# Altium schematic symbol library sch_ConnectorGeneral.SchLib: 83 symbols
Pins are listed as number, name and electrical type; pins without a type are passive.

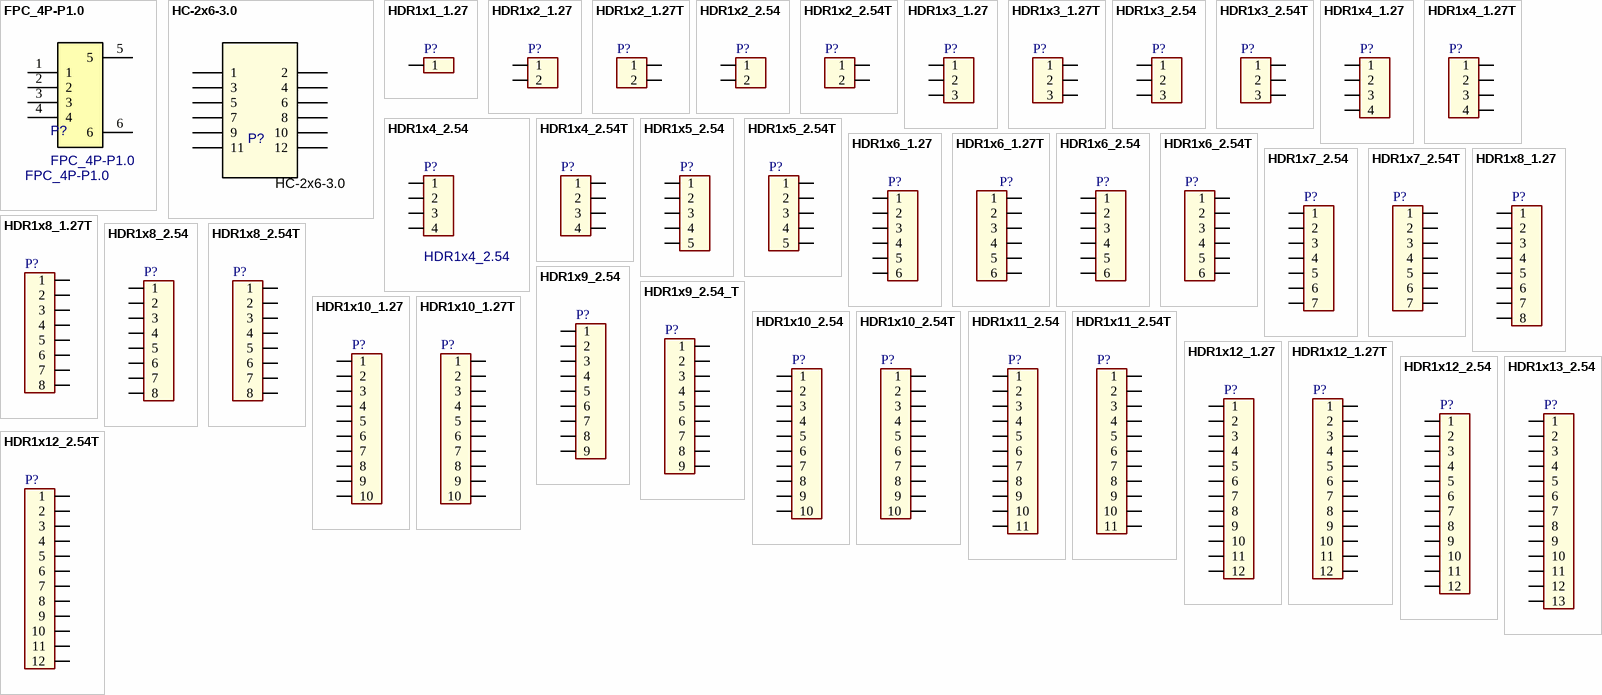
[diagram p0: symbols FPC_4P-P1.0 to HDR1x13_2.54]

## FPC_4P-P1.0
designator P?
MFR: *; Package: *; PartNumber: FPC_4P-P1.0
footprint FPC-SMD_4P-P1.00_HDGC_1.0K-GL-4PB
pins: 1, 2, 3, 4, 5, 6

## HC-2x6-3.0
designator P?
Header; MFR: Mfr?; Package: HC-2x6-3.0; PartNumber: HC-2x6-3.0
footprint MX-TH_2X6P-P3.0_MX3.0-2X6AW
pins: 1, 2, 3, 4, 5, 6, 7, 8, 9, 10, 11, 12

## HDR1x1_1.27
designator P?, comment HDR1x1  (value not drawn)
Header; PartNumber: HDR1x1_1.27; Package: HDR1x1_1.27
footprint HDR-TH-1P-P1.27-V
pins: 1

## HDR1x2_1.27
designator P?, comment HDR1x2  (value not drawn)
Header; PartNumber: HDR1x2_1.27; Package: HDR1x2_1.27
footprint HDR-TH-1X2P-P2.54-H
footprint HDR-TH-1X2P-P1.27-V
pins: 1, 2

## HDR1x2_1.27T
designator P?, comment HDR1x2  (value not drawn)
Header; PartNumber: HDR1x2_1.27T; Package: HDR1x2_1.27T
footprint HDR1X2_1.27_180
footprint HDR1X2_1.27_180H
pins: 1, 2

## HDR1x2_2.54
designator P?, comment HDR1x2  (value not drawn)
Header; PartNumber: HDR1x2_2.54; Package: HDR1x2_2.54
footprint HDR1X2_2.54_90
footprint HDR1X2_2.54_90F
footprint HDR1X2_2.54_180
footprint HDR1X2_2.54_180F
footprint HDR1X2_2.54_180H
footprint HDR1X2_2.54_180HD
pins: 1, 2

## HDR1x2_2.54T
designator P?, comment HDR1x2  (value not drawn)
Header; PartNumber: HDR1x2_2.54T; Package: HDR1x2_2.54T
footprint HDR1X2_2.54_90
footprint HDR1X2_2.54_90F
footprint HDR1X2_2.54_180
footprint HDR1X2_2.54_180F
footprint HDR1X2_2.54_180H
footprint HDR1X2_2.54_180HD
pins: 1, 2

## HDR1x3_1.27
designator P?, comment HDR1x3  (value not drawn)
Header; PartNumber: HDR1x3_1.27; Package: HDR1x3_1.27
footprint HDR1X3_1.27_180HF
pins: 1, 2, 3

## HDR1x3_1.27T
designator P?, comment HDR1x3  (value not drawn)
Header; PartNumber: HDR1x3_1.27T; Package: HDR1x3_1.27T
footprint HDR1X3_1.27_180 (Footprint not found)
footprint HDR1X3_1.27_180HF
pins: 1, 2, 3

## HDR1x3_2.54
designator P?, comment HDR1x3  (value not drawn)
Header; PartNumber: HDR1x3_2.54; Package: HDR1x3_2.54
footprint HDR1X3_2.54_90
footprint HDR1X3_2.54_90F
footprint HDR1X3_2.54_180
footprint HDR1X3_2.54_180F
pins: 1, 2, 3

## HDR1x3_2.54T
designator P?, comment HDR1x3  (value not drawn)
Header; PartNumber: HDR1x3_2.54T; Package: HDR1x3_2.54T
footprint HDR1X3_2.54_90
footprint HDR1X3_2.54_90F
footprint HDR1X3_2.54_180
footprint HDR1X3_2.54_180F
pins: 1, 2, 3

## HDR1x4_1.27
designator P?, comment HDR1x4  (value not drawn)
Header; PartNumber: HDR1x4_1.27; Package: HDR1x4_1.27
footprint HDR1X4_1.27_180
footprint HDR1X4_1.27_180F
footprint HDR1X4_1.27_180H
footprint HDR1X4_1.27_180HF
pins: 1, 2, 3, 4

## HDR1x4_1.27T
designator P?, comment HDR1x4  (value not drawn)
Header; PartNumber: HDR1x4_1.27T; Package: HDR1x4_1.27T
footprint HDR1X4_1.27_180
footprint HDR1X4_1.27_180F
footprint HDR1X4_1.27_180H
footprint HDR1X4_1.27_180HF
pins: 1, 2, 3, 4

## HDR1x4_2.54
designator P?, comment PartNumber: HDR1x4_2.54  (hidden comment: HDR1x4)
Header; Package: HDR1x4_2.54
footprint HDR1X4_2.54_90
footprint HDR1X4_2.54_90F
footprint HDR1x4_2.54_180
footprint HDR1X4_2.54_180F (Footprint not found)
footprint HDR1X4_2.54_180H
pins: 1, 2, 3, 4

## HDR1x4_2.54T
designator P?, comment HDR1x4  (value not drawn)
Header; PartNumber: HDR1x4_2.54T; Package: HDR1x4_2.54T
footprint HDR1X4_2.54_90
footprint HDR1X4_2.54_90F
footprint HDR1x4_2.54_180
footprint HDR1X4_2.54_180F (Footprint not found)
footprint HDR1X4_2.54_180H
pins: 1, 2, 3, 4

## HDR1x5_2.54
designator P?, comment HDR1x5  (value not drawn)
Header; PartNumber: HDR1x5_2.54; Package: HDR1x5_2.54
footprint HDR1X5_2.54_180
footprint HDR1X5_2.54_180F (Footprint not found)
footprint HDR1X5_2.54_180H
footprint HDR1X5_2.54_180HF
pins: 1, 2, 3, 4, 5

## HDR1x5_2.54T
designator P?, comment HDR1x5  (value not drawn)
Header; PartNumber: HDR1x5_2.54T; Package: HDR1x5_2.54T
footprint HDR1X5_2.54_90 (Footprint not found)
footprint HDR1X5_2.54_90F (Footprint not found)
footprint HDR1X5_2.54_180
footprint HDR1X5_2.54_180F (Footprint not found)
footprint HDR1X5_2.54_180H
footprint HDR1X5_2.54_180HF
pins: 1, 2, 3, 4, 5

## HDR1x6_1.27
designator P?, comment HDR1x6  (value not drawn)
Header; PartNumber: HDR1x6_1.27; Package: HDR1x6_1.27
footprint HDR1X6_1.27_90 (Footprint not found)
footprint HDR1X6_1.27_90F (Footprint not found)
footprint HDR1X6_1.27_180 (Footprint not found)
footprint HDR1X6_1.27_180F
footprint HDR1X6_1.27_180H
footprint HDR1X6_1.27_180HF
pins: 1, 2, 3, 4, 5, 6

## HDR1x6_1.27T
designator P?, comment HDR1x6  (value not drawn)
Header; PartNumber: HDR1x6_1.27T; Package: HDR1x6_1.27T
footprint HDR1X6_1.27_90 (Footprint not found)
footprint HDR1X6_1.27_90F (Footprint not found)
footprint HDR1X6_1.27_180 (Footprint not found)
footprint HDR1X6_1.27_180F
footprint HDR1X6_1.27_180H
footprint HDR1X6_1.27_180HF
pins: 1, 2, 3, 4, 5, 6

## HDR1x6_2.54
designator P?, comment HDR1x6  (value not drawn)
Header; PartNumber: HDR1x6_2.54; Package: HDR1x6_2.54
footprint HDR1X6_2.54_90
footprint HDR1X6_2.54_90F
footprint HDR1X6_2.54_180
footprint HDR1X6_2.54_180F
pins: 1, 2, 3, 4, 5, 6

## HDR1x6_2.54T
designator P?, comment HDR1x6  (value not drawn)
Header; PartNumber: HDR1x6_2.54T; Package: HDR1x6_2.54T
footprint HDR1X6_2.54_90
footprint HDR1X6_2.54_90F
footprint HDR1X6_2.54_180
footprint HDR1X6_2.54_180F
pins: 1, 2, 3, 4, 5, 6

## HDR1x7_2.54
designator P?, comment HDR1x7  (value not drawn)
Header; PartNumber: HDR1x7_2.54; Package: HDR1x7_2.54
footprint HDR1X7_2.54_90 (Footprint not found)
footprint HDR1X7_2.54_90F (Footprint not found)
footprint HDR1X7_2.54_180
footprint HDR1X7_2.54_180F (Footprint not found)
footprint HDR1X7_2.54_180H
pins: 1, 2, 3, 4, 5, 6, 7

## HDR1x7_2.54T
designator P?, comment HDR1x7  (value not drawn)
Header; PartNumber: HDR1x7_2.54T; Package: HDR1x7_2.54T
footprint HDR1X7_2.54_90 (Footprint not found)
footprint HDR1X7_2.54_90F (Footprint not found)
footprint HDR1X7_2.54_180
footprint HDR1X7_2.54_180F (Footprint not found)
footprint HDR1X7_2.54_180H
pins: 1, 2, 3, 4, 5, 6, 7

## HDR1x8_1.27
designator P?, comment HDR1x8  (value not drawn)
Header; PartNumber: HDR1x8_1.27; Package: HDR1x8_1.27
footprint HDR1X8_1.27_90 (Footprint not found)
footprint HDR1X8_1.27_90F (Footprint not found)
footprint HDR1X8_1.27_180
footprint HDR1X8_1.27_180F
footprint HDR1X8_1.27_180H (Footprint not found)
footprint HDR1X8_1.27_180HF
pins: 1, 2, 3, 4, 5, 6, 7, 8

## HDR1x8_1.27T
designator P?, comment HDR1x8  (value not drawn)
Header; PartNumber: HDR1x8_1.27T; Package: HDR1x8_1.27T
footprint HDR1X8_1.27_90 (Footprint not found)
footprint HDR1X8_1.27_90F (Footprint not found)
footprint HDR1X8_1.27_180
footprint HDR1X8_1.27_180F
footprint HDR1X8_1.27_180H (Footprint not found)
footprint HDR1X8_1.27_180HF
pins: 1, 2, 3, 4, 5, 6, 7, 8

## HDR1x8_2.54
designator P?, comment HDR1x8  (value not drawn)
Header; PartNumber: HDR1x8_2.54; Package: HDR1x8_2.54
footprint HDR1X8_2.54_90 (Footprint not found)
footprint HDR1X8_2.54_90F (Footprint not found)
footprint HDR1X8_2.54_180
footprint HDR1X8_2.54_180F
footprint HDR1X8_2.54_180S
pins: 1, 2, 3, 4, 5, 6, 7, 8

## HDR1x8_2.54T
designator P?, comment HDR1x8  (value not drawn)
Header; PartNumber: HDR1x8_2.54T; Package: HDR1x8_2.54T
footprint HDR1X8_2.54_90 (Footprint not found)
footprint HDR1X8_2.54_90F (Footprint not found)
footprint HDR1X8_2.54_180
footprint HDR1X8_2.54_180F
footprint HDR1X8_2.54_180S
pins: 1, 2, 3, 4, 5, 6, 7, 8

## HDR1x9_2.54
designator P?, comment HDR1x9  (value not drawn)
Header; PartNumber: HDR1x9_2.54; Package: HDR1x9_2.54
footprint HDR1X9_2.54_90 (Footprint not found)
footprint HDR1X9_2.54_90F (Footprint not found)
footprint HDR1X9_2.54_180
footprint HDR1X9_2.54_180F (Footprint not found)
pins: 1, 2, 3, 4, 5, 6, 7, 8, 9

## HDR1x9_2.54_T
designator P?, comment HDR1x9  (value not drawn)
Header; PartNumber: HDR1x9_2.54_T; Package: HDR1x9_2.54_T
footprint HDR1X9_2.54_90 (Footprint not found)
footprint HDR1X9_2.54_90F (Footprint not found)
footprint HDR1X9_2.54_180
footprint HDR1X9_2.54_180F (Footprint not found)
pins: 1, 2, 3, 4, 5, 6, 7, 8, 9

## HDR1x10_1.27
designator P?, comment HDR1x10  (value not drawn)
Header; PartNumber: HDR1x10_1.27; Package: HDR1x10_1.27
footprint HDR1X10_1.27_90 (Footprint not found)
footprint HDR1X10_1.27_90F (Footprint not found)
footprint HDR1X10_1.27_180
footprint HDR1X10_1.27_180F (Footprint not found)
footprint HDR1X10_1.27_180H (Footprint not found)
footprint HDR1X10_1.27_180HF
pins: 1, 2, 3, 4, 5, 6, 7, 8, 9, 10

## HDR1x10_1.27T
designator P?, comment HDR1x10  (value not drawn)
Header; PartNumber: HDR1x10_1.27T; Package: HDR1x10_1.27T
footprint HDR1X10_1.27_90 (Footprint not found)
footprint HDR1X10_1.27_90F (Footprint not found)
footprint HDR1X10_1.27_180
footprint HDR1X10_1.27_180F (Footprint not found)
footprint HDR1X10_1.27_180H (Footprint not found)
footprint HDR1X10_1.27_180HF
pins: 1, 2, 3, 4, 5, 6, 7, 8, 9, 10

## HDR1x10_2.54
designator P?, comment HDR1x10  (value not drawn)
Header; PartNumber: HDR1x10_2.54; Package: HDR1x10_2.54
footprint HDR1X10_2.54_90
footprint HDR1X10_2.54_90F (Footprint not found)
footprint HDR1X10_2.54_180
footprint HDR1X10_2.54_180F
footprint HDR1X10_2.54_180H
pins: 1, 2, 3, 4, 5, 6, 7, 8, 9, 10

## HDR1x10_2.54T
designator P?, comment HDR1x10  (value not drawn)
Header; PartNumber: HDR1x10_2.54T; Package: HDR1x10_2.54T
footprint HDR1X10_2.54_90
footprint HDR1X10_2.54_90F (Footprint not found)
footprint HDR1X10_2.54_180
footprint HDR1X10_2.54_180F
footprint HDR1X10_2.54_180H
pins: 1, 2, 3, 4, 5, 6, 7, 8, 9, 10

## HDR1x11_2.54
designator P?, comment HDR1x11  (value not drawn)
Header; PartNumber: HDR1x11_2.54; Package: HDR1x11_2.54
footprint HDR1X11_2.54_90 (Footprint not found)
footprint HDR1X11_2.54_90F (Footprint not found)
footprint HDR1X11_2.54_180
footprint HDR1X11_2.54_180F (Footprint not found)
pins: 1, 2, 3, 4, 5, 6, 7, 8, 9, 10, 11

## HDR1x11_2.54T
designator P?, comment HDR1x11  (value not drawn)
Header; PartNumber: HDR1x11_2.54T; Package: HDR1x11_2.54T
footprint HDR1X11_2.54_90 (Footprint not found)
footprint HDR1X11_2.54_90F (Footprint not found)
footprint HDR1X11_2.54_180
footprint HDR1X11_2.54_180F (Footprint not found)
pins: 1, 2, 3, 4, 5, 6, 7, 8, 9, 10, 11

## HDR1x12_1.27
designator P?, comment HDR1x12  (value not drawn)
Header; PartNumber: HDR1x12_1.27; Package: HDR1x12_1.27
footprint HDR1X12_1.27_90 (Footprint not found)
footprint HDR1X12_1.27_90F (Footprint not found)
footprint HDR1X12_1.27_180
footprint HDR1X12_1.27_180F (Footprint not found)
footprint HDR1X12_1.27_180H (Footprint not found)
footprint HDR1X12_1.27_180HF (Footprint not found)
pins: 1, 2, 3, 4, 5, 6, 7, 8, 9, 10, 11, 12

## HDR1x12_1.27T
designator P?, comment HDR1x12  (value not drawn)
Header; PartNumber: HDR1x12_1.27T; Package: HDR1x12_1.27T
footprint HDR1X12_1.27_90 (Footprint not found)
footprint HDR1X12_1.27_90F (Footprint not found)
footprint HDR1X12_1.27_180
footprint HDR1X12_1.27_180F (Footprint not found)
footprint HDR1X12_1.27_180H (Footprint not found)
footprint HDR1X12_1.27_180HF (Footprint not found)
pins: 1, 2, 3, 4, 5, 6, 7, 8, 9, 10, 11, 12

## HDR1x12_2.54
designator P?, comment HDR1x12  (value not drawn)
Header; PartNumber: HDR1x12_2.54; Package: HDR1x12_2.54
footprint HDR1X12_2.54_90
footprint HDR1X12_2.54_90F (Footprint not found)
footprint HDR1X12_2.54_180
footprint HDR1X12_2.54_180F (Footprint not found)
footprint HDR1X12_2.54_180H
pins: 1, 2, 3, 4, 5, 6, 7, 8, 9, 10, 11, 12

## HDR1x12_2.54T
designator P?, comment HDR1x12  (value not drawn)
Header; PartNumber: HDR1x12_2.54T; Package: HDR1x12_2.54T
footprint HDR1X12_2.54_90
footprint HDR1X12_2.54_90F (Footprint not found)
footprint HDR1X12_2.54_180
footprint HDR1X12_2.54_180F (Footprint not found)
footprint HDR1X12_2.54_180H
pins: 1, 2, 3, 4, 5, 6, 7, 8, 9, 10, 11, 12

## HDR1x13_2.54
designator P?, comment HDR1x13  (value not drawn)
Header; PartNumber: HDR1x13_2.54; Package: HDR1x13_2.54
footprint HDR1X13_2.54_90 (Footprint not found)
footprint HDR1X13_2.54_90F (Footprint not found)
footprint HDR1X13_2.54_180
footprint HDR1X13_2.54_180F (Footprint not found)
pins: 1, 2, 3, 4, 5, 6, 7, 8, 9, 10, 11, 12, 13

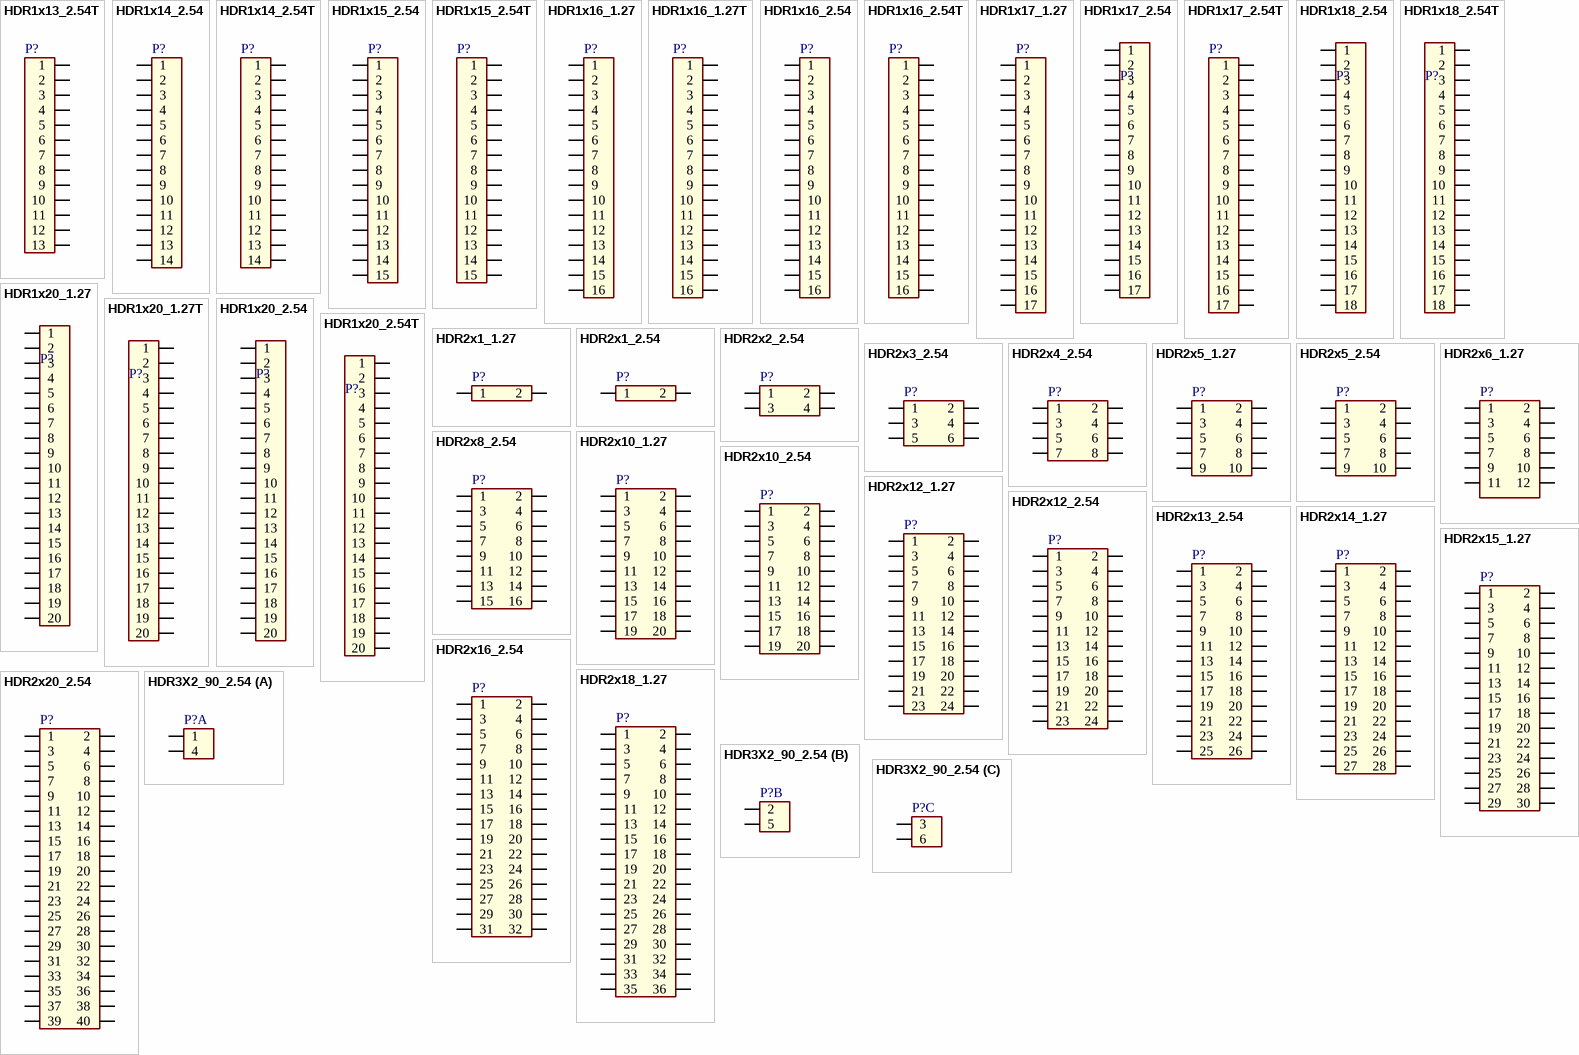
[diagram p1: symbols HDR1x13_2.54T to HDR3X2_90_2.54]

## HDR1x13_2.54T
designator P?, comment HDR1x13  (value not drawn)
Header; PartNumber: HDR1x13_2.54T; Package: HDR1x13_2.54T
footprint HDR1X13_2.54_90 (Footprint not found)
footprint HDR1X13_2.54_90F (Footprint not found)
footprint HDR1X13_2.54_180
footprint HDR1X13_2.54_180F (Footprint not found)
pins: 1, 2, 3, 4, 5, 6, 7, 8, 9, 10, 11, 12, 13

## HDR1x14_2.54
designator P?, comment HDR1x14  (value not drawn)
Header; PartNumber: HDR1x14_2.54; Package: HDR1x14_2.54
footprint HDR1X14_2.54_90 (Footprint not found)
footprint HDR1X14_2.54_90F (Footprint not found)
footprint HDR1X14_2.54_180
footprint HDR1X14_2.54_180F (Footprint not found)
footprint HDR1X14_2.54_180S
pins: 1, 2, 3, 4, 5, 6, 7, 8, 9, 10, 11, 12, 13, 14

## HDR1x14_2.54T
designator P?, comment HDR1x14  (value not drawn)
Header; PartNumber: HDR1x14_2.54T; Package: HDR1x14_2.54T
footprint HDR1X14_2.54_90 (Footprint not found)
footprint HDR1X14_2.54_90F (Footprint not found)
footprint HDR1X14_2.54_180
footprint HDR1X14_2.54_180F (Footprint not found)
footprint HDR1X14_2.54_180S
pins: 1, 2, 3, 4, 5, 6, 7, 8, 9, 10, 11, 12, 13, 14

## HDR1x15_2.54
designator P?, comment HDR1x15  (value not drawn)
Header; PartNumber: HDR1x15_2.54; Package: HDR1x15_2.54
footprint HDR1X15_2.54_90 (Footprint not found)
footprint HDR1X15_2.54_90F (Footprint not found)
footprint HDR1X15_2.54_180
footprint HDR1X15_2.54_180F (Footprint not found)
pins: 1, 2, 3, 4, 5, 6, 7, 8, 9, 10, 11, 12, 13, 14, 15

## HDR1x15_2.54T
designator P?, comment HDR1x15  (value not drawn)
Header; PartNumber: HDR1x15_2.54T; Package: HDR1x15_2.54T
footprint HDR1X15_2.54_90 (Footprint not found)
footprint HDR1X15_2.54_90F (Footprint not found)
footprint HDR1X15_2.54_180
footprint HDR1X15_2.54_180F (Footprint not found)
pins: 1, 2, 3, 4, 5, 6, 7, 8, 9, 10, 11, 12, 13, 14, 15

## HDR1x16_1.27
designator P?, comment HDR1x16  (value not drawn)
Header; PartNumber: HDR1x16_1.27; Package: HDR1x16_1.27
footprint HDR1X16_1.27_90 (Footprint not found)
footprint HDR1X16_1.27_90F (Footprint not found)
footprint HDR1X16_1.27_180
footprint HDR1X16_1.27_180F (Footprint not found)
pins: 1, 2, 3, 4, 5, 6, 7, 8, 9, 10, 11, 12, 13, 14, 15, 16

## HDR1x16_1.27T
designator P?, comment HDR1x16  (value not drawn)
Header; PartNumber: HDR1x16_1.27T; Package: HDR1x16_1.27T
footprint HDR1X16_1.27_90 (Footprint not found)
footprint HDR1X16_1.27_90F (Footprint not found)
footprint HDR1X16_1.27_180
footprint HDR1X16_1.27_180F (Footprint not found)
pins: 1, 2, 3, 4, 5, 6, 7, 8, 9, 10, 11, 12, 13, 14, 15, 16

## HDR1x16_2.54
designator P?, comment HDR1x16  (value not drawn)
Header; PartNumber: HDR1x16_2.54; Package: HDR1x16_2.54
footprint HDR1X16_2.54_90 (Footprint not found)
footprint HDR1X16_2.54_90F (Footprint not found)
footprint HDR1X16_2.54_180
footprint HDR1X16_2.54_180F (Footprint not found)
pins: 1, 2, 3, 4, 5, 6, 7, 8, 9, 10, 11, 12, 13, 14, 15, 16

## HDR1x16_2.54T
designator P?, comment HDR1x16  (value not drawn)
Header; PartNumber: HDR1x16_2.54T; Package: HDR1x16_2.54T
footprint HDR1X16_2.54_90 (Footprint not found)
footprint HDR1X16_2.54_90F (Footprint not found)
footprint HDR1X16_2.54_180
footprint HDR1X16_2.54_180F (Footprint not found)
pins: 1, 2, 3, 4, 5, 6, 7, 8, 9, 10, 11, 12, 13, 14, 15, 16

## HDR1x17_1.27
designator P?, comment HDR1x17  (value not drawn)
Header; PartNumber: HDR1x17_1.27; Package: HDR1x17_1.27
footprint HDR1X15_2.54_90 (Footprint not found)
footprint HDR1X15_2.54_90F (Footprint not found)
footprint HDR1X17_1.27_180
footprint HDR1X15_2.54_180F (Footprint not found)
pins: 1, 2, 3, 4, 5, 6, 7, 8, 9, 10, 11, 12, 13, 14, 15, 16, 17

## HDR1x17_2.54
designator P?, comment HDR1x17  (value not drawn)
Header; PartNumber: HDR1x17_2.54; Package: HDR1x17_2.54
footprint HDR1X17_2.54_90 (Footprint not found)
footprint HDR1X17_2.54_90F (Footprint not found)
footprint HDR1X17_2.54_180
footprint HDR1X17_2.54_180F (Footprint not found)
pins: 1, 2, 3, 4, 5, 6, 7, 8, 9, 10, 11, 12, 13, 14, 15, 16, 17

## HDR1x17_2.54T
designator P?, comment HDR1x17  (value not drawn)
Header; PartNumber: HDR1x17_2.54T; Package: HDR1x17_2.54T
footprint HDR1X17_2.54_90 (Footprint not found)
footprint HDR1X17_2.54_90F (Footprint not found)
footprint HDR1X17_2.54_180
footprint HDR1X17_2.54_180F (Footprint not found)
pins: 1, 2, 3, 4, 5, 6, 7, 8, 9, 10, 11, 12, 13, 14, 15, 16, 17

## HDR1x18_2.54
designator P?, comment HDR1x18  (value not drawn)
Header; PartNumber: HDR1x18_2.54; Package: HDR1x18_2.54
footprint HDR1X18_2.54_90 (Footprint not found)
footprint HDR1X18_2.54_90F (Footprint not found)
footprint HDR1X18_2.54_180
footprint HDR1X18_2.54_180F (Footprint not found)
pins: 1, 2, 3, 4, 5, 6, 7, 8, 9, 10, 11, 12, 13, 14, 15, 16, 17, 18

## HDR1x18_2.54T
designator P?, comment HDR1x18  (value not drawn)
Header; PartNumber: HDR1x18_2.54T; Package: HDR1x18_2.54T
footprint HDR1X18_2.54_90 (Footprint not found)
footprint HDR1X18_2.54_90F (Footprint not found)
footprint HDR1X18_2.54_180
footprint HDR1X18_2.54_180F (Footprint not found)
pins: 1, 2, 3, 4, 5, 6, 7, 8, 9, 10, 11, 12, 13, 14, 15, 16, 17, 18

## HDR1x20_1.27
designator P?, comment HDR1x20  (value not drawn)
Header; PartNumber: HDR1x20_1.27; Package: HDR1x20_1.27
footprint HDR1X20_1.27_90 (Footprint not found)
footprint HDR1X20_1.27_90F (Footprint not found)
footprint HDR1X20_1.27_180 (Footprint not found)
footprint HDR1X20_1.27_180F
footprint HDR1X20_1.27_180H (Footprint not found)
pins: 1, 2, 3, 4, 5, 6, 7, 8, 9, 10, 11, 12, 13, 14, 15, 16, 17, 18, 19, 20

## HDR1x20_1.27T
designator P?, comment HDR1x20  (value not drawn)
Header; PartNumber: HDR1x20_1.27T; Package: HDR1x20_1.27T
footprint HDR1X20_1.27_90 (Footprint not found)
footprint HDR1X20_1.27_90F (Footprint not found)
footprint HDR1X20_1.27_180 (Footprint not found)
footprint HDR1X20_1.27_180F
footprint HDR1X20_1.27_180H (Footprint not found)
pins: 1, 2, 3, 4, 5, 6, 7, 8, 9, 10, 11, 12, 13, 14, 15, 16, 17, 18, 19, 20

## HDR1x20_2.54
designator P?, comment HDR1x20  (value not drawn)
Header; PartNumber: HDR1x20_2.54; Package: HDR1x20_2.54
footprint HDR-TH_1x20P-P2.54-V-F
footprint HDR-TH_1x20P-P2.54-V
pins: 1, 2, 3, 4, 5, 6, 7, 8, 9, 10, 11, 12, 13, 14, 15, 16, 17, 18, 19, 20

## HDR1x20_2.54T
designator P?, comment HDR1x20  (value not drawn)
Header; PartNumber: HDR1x20_2.54T; Package: HDR1x20_2.54T
footprint HDR1X20_2.54_90 (Footprint not found)
footprint HDR1X20_2.54_90F (Footprint not found)
footprint HDR1X20_2.54_180
footprint HDR1X20_2.54_180F (Footprint not found)
footprint HDR1X20_2.54_180H
pins: 1, 2, 3, 4, 5, 6, 7, 8, 9, 10, 11, 12, 13, 14, 15, 16, 17, 18, 19, 20

## HDR2x1_1.27
designator P?, comment HDR2x1  (value not drawn)
Header; PartNumber: HDR2x1_1.27; Package: HDR2x1_1.27
footprint HDR1X2_1.27_180
footprint HDR1X2_1.27_180H
pins: 1, 2

## HDR2x1_2.54
designator P?, comment HDR2x1  (value not drawn)
Header; PartNumber: HDR2x1_2.54; Package: HDR2x1_2.54
footprint HDR1X2_2.54_90
footprint HDR1X2_2.54_90F
footprint HDR1X2_2.54_180
footprint HDR1X2_2.54_180F
footprint HDR1X2_2.54_180H
footprint HDR1X2_2.54_180HD
pins: 1, 2

## HDR2x2_2.54
designator P?, comment HDR2x2  (value not drawn)
Header; PartNumber: HDR2x2_2.54; Package: HDR2x2_2.54
footprint HDR2X2_2.54_90
footprint HDR2X2_2.54_90F
footprint HDR2X2_2.54_180
footprint HDR2X2_2.54_180F
footprint HDR2X2_2.54_180H
pins: 1, 2, 3, 4

## HDR2x3_2.54
designator P?, comment HDR2x3  (value not drawn)
Header; PartNumber: HDR2x3_2.54; Package: HDR2x3_2.54
footprint HDR-TH_2x3P-P2.54-V
pins: 1, 2, 3, 4, 5, 6

## HDR2x4_2.54
designator P?, comment HDR2x4  (value not drawn)
Header; PartNumber: HDR2x4_2.54; Package: HDR2x4_2.54
footprint HDR2X4_2.54_90
footprint HDR2X4_2.54_90F (Footprint not found)
footprint HDR2X4_2.54_180
footprint HDR2X4_2.54_180F
footprint HDR2X4_2.54_180H
footprint HDR2X4_2.54_180HF
pins: 1, 2, 3, 4, 5, 6, 7, 8

## HDR2x5_1.27
designator P?, comment HDR2x5  (value not drawn)
Header; PartNumber: HDR2x5_1.27; Package: HDR2x5_1.27
footprint HDR2X5_1.27_90 (Footprint not found)
footprint HDR2X5_1.27_90F (Footprint not found)
footprint HDR2X5_1.27_180HF (Footprint not found)
footprint HDR2X5_1.27_180F (Footprint not found)
footprint HDR2X5_1.27_180H (Footprint not found)
footprint HDR2X5_1.27_180S
footprint HDR2X5_1.27_180FS (Footprint not found)
pins: 1, 2, 3, 4, 5, 6, 7, 8, 9, 10

## HDR2x5_2.54
designator P?, comment HDR2x5  (value not drawn)
Header; PartNumber: HDR2x5_2.54; Package: HDR2x5_2.54
footprint HDR2X5_2.54_90 (Footprint not found)
footprint HDR2X5_2.54_90F (Footprint not found)
footprint HDR2X5_2.54_180
footprint HDR2X5_2.54_180F
footprint HDR2X5_2.54_180HF (Footprint not found)
pins: 1, 2, 3, 4, 5, 6, 7, 8, 9, 10

## HDR2x6_1.27
designator P?, comment HDR2x6  (value not drawn)
Header; PartNumber: HDR2x6_1.27; Package: HDR2x6_1.27
footprint HDR2X6_1.27_90 (Footprint not found)
footprint HDR2X6_1.27_90F (Footprint not found)
footprint HDR2X6_1.27_180HF
footprint HDR2X6_1.27_180F (Footprint not found)
footprint HDR2X6_1.27_180HF
pins: 1, 2, 3, 4, 5, 6, 7, 8, 9, 10, 11, 12

## HDR2x8_2.54
designator P?, comment HDR2x8  (value not drawn)
Header; PartNumber: HDR2x8_2.54; Package: HDR2x8_2.54
footprint HDR2X8_2.54_90
footprint HDR2X8_2.54_90F
footprint HDR2X8_2.54_180
footprint HDR2X8_2.54_180F
footprint HDR2X8_2.54_180HF
footprint HDR2X8_2.54_180H
pins: 1, 2, 3, 4, 5, 6, 7, 8, 9, 10, 11, 12, 13, 14, 15, 16

## HDR2x10_1.27
designator P?, comment HDR2x10  (value not drawn)
Header; PartNumber: HDR2x10_1.27; Package: HDR2x10_1.27
footprint HDR2X10_1.27_90 (Footprint not found)
footprint HDR2X10_1.27_90F (Footprint not found)
footprint HDR2X10_1.27_180HF (Footprint not found)
footprint HDR2X10_1.27_180F (Footprint not found)
footprint HDR2X10_1.27_180H (Footprint not found)
footprint HDR2X10_1.27_180 (Footprint not found)
footprint HDR2X10_1.27_180S
footprint HDR2X10_1.27_180FS
footprint HDR2X10_1.27_180TBH
pins: 1, 2, 3, 4, 5, 6, 7, 8, 9, 10, 11, 12, 13, 14, 15, 16, 17, 18, 19, 20

## HDR2x10_2.54
designator P?, comment HDR2x10  (value not drawn)
Header; PartNumber: HDR2x10_2.54; Package: HDR2x10_2.54
footprint HDR2X10_2.54_90
footprint HDR2X10_2.54_90F
footprint HDR2X10_2.54_180
footprint HDR2X10_2.54_180F
footprint HDR2X10_2.54_180HF
footprint HDR2X10_2.54_180H
pins: 1, 2, 3, 4, 5, 6, 7, 8, 9, 10, 11, 12, 13, 14, 15, 16, 17, 18, 19, 20

## HDR2x12_1.27
designator P?, comment HDR2x12  (value not drawn)
Header; PartNumber: HDR2x12_1.27; Package: HDR2x12_1.27
footprint HDR2X12_1.27_90 (Footprint not found)
footprint HDR2X12_1.27_90F (Footprint not found)
footprint HDR2X12_1.27_180HF
footprint HDR2X12_1.27_180F (Footprint not found)
footprint HDR2X12_1.27_180HF
pins: 1, 2, 3, 4, 5, 6, 7, 8, 9, 10, 11, 12, 13, 14, 15, 16, 17, 18, 19, 20, 21, 22, 23, 24

## HDR2x12_2.54
designator P?, comment HDR2x12  (value not drawn)
Header; PartNumber: HDR2x12_2.54; Package: HDR2x12_2.54
footprint HDR2X12_2.54_90 (Footprint not found)
footprint HDR2X12_2.54_90F (Footprint not found)
footprint HDR2X12_2.54_180 (Footprint not found)
footprint HDR2X12_2.54_180F
footprint HDR2X12_2.54_180HF
pins: 1, 2, 3, 4, 5, 6, 7, 8, 9, 10, 11, 12, 13, 14, 15, 16, 17, 18, 19, 20, 21, 22, 23, 24

## HDR2x13_2.54
designator P?, comment HDR2x13  (value not drawn)
Header; PartNumber: HDR2x13_2.54; Package: HDR2x13_2.54
footprint HDR2X13_2.54_90 (Footprint not found)
footprint HDR2X13_2.54_90F (Footprint not found)
footprint HDR2X13_2.54_180 (Footprint not found)
footprint HDR2X13_2.54_180F (Footprint not found)
footprint HDR2X13_2.54_180H
footprint HDR2X13_2.54_180HF
pins: 1, 2, 3, 4, 5, 6, 7, 8, 9, 10, 11, 12, 13, 14, 15, 16, 17, 18, 19, 20, 21, 22, 23, 24, 25, 26

## HDR2x14_1.27
designator P?, comment HDR2x14  (value not drawn)
Header; PartNumber: HDR2x14_1.27; Package: HDR2x14_1.27
footprint HDR2X14_1.27_90 (Footprint not found)
footprint HDR2X14_1.27_90F (Footprint not found)
footprint HDR2X14_1.27_180HF
footprint HDR2X14_1.27_180F (Footprint not found)
footprint HDR2X14_1.27_180H
footprint HDR2X14_1.27_180
pins: 1, 2, 3, 4, 5, 6, 7, 8, 9, 10, 11, 12, 13, 14, 15, 16, 17, 18, 19, 20, 21, 22, 23, 24, 25, 26, 27, 28

## HDR2x15_1.27
designator P?, comment HDR2x15  (value not drawn)
Header; PartNumber: HDR2x15_1.27; Package: HDR2x15_1.27
footprint HDR2X15_1.27_90 (Footprint not found)
footprint HDR2X15_1.27_90F (Footprint not found)
footprint HDR2X15_1.27_180HF
footprint HDR2X15_1.27_180F (Footprint not found)
footprint HDR2X15_1.27_180H
footprint HDR2X15_1.27_180
footprint HDR2X15_1.27_180S
pins: 1, 2, 3, 4, 5, 6, 7, 8, 9, 10, 11, 12, 13, 14, 15, 16, 17, 18, 19, 20, 21, 22, 23, 24, 25, 26, 27, 28, 29, 30

## HDR2x16_2.54
designator P?, comment HDR2x16  (value not drawn)
Header; PartNumber: HDR2x16_2.54; Package: HDR2x16_2.54
footprint HDR2X16_2.54_90 (Footprint not found)
footprint HDR2X16_2.54_90F (Footprint not found)
footprint HDR2X16_2.54_180
footprint HDR2X16_2.54_180F (Footprint not found)
pins: 1, 2, 3, 4, 5, 6, 7, 8, 9, 10, 11, 12, 13, 14, 15, 16, 17, 18, 19, 20, 21, 22, 23, 24, 25, 26, 27, 28, 29, 30, 31, 32

## HDR2x18_1.27
designator P?, comment HDR2x18  (value not drawn)
Header; PartNumber: HDR2x18_1.27; Package: HDR2x18_1.27
footprint HDR2x18_1.27_90 (Footprint not found)
footprint HDR2x18_1.27_90F (Footprint not found)
footprint HDR2x18_1.27_180
footprint HDR2x18_1.27_180F (Footprint not found)
footprint HDR2X18_1.27_180H
pins: 1, 2, 3, 4, 5, 6, 7, 8, 9, 10, 11, 12, 13, 14, 15, 16, 17, 18, 19, 20, 21, 22, 23, 24, 25, 26, 27, 28, 29, 30, 31, 32, 33, 34, 35, 36

## HDR2x20_2.54
designator P?, comment HDR2x20  (value not drawn)
Header; PartNumber: HDR2x20_2.54; Package: HDR2x20_2.54
footprint HDR2X20_2.54_90 (Footprint not found)
footprint HDR2X20_2.54_90F (Footprint not found)
footprint HDR2X20_2.54_180
footprint HDR2X20_2.54_180F
pins: 1, 2, 3, 4, 5, 6, 7, 8, 9, 10, 11, 12, 13, 14, 15, 16, 17, 18, 19, 20, 21, 22, 23, 24, 25, 26, 27, 28, 29, 30, 31, 32, 33, 34, 35, 36, 37, 38, 39, 40

## HDR3X2_90_2.54
designator P?, comment HDR3X2  (value not drawn)
Header; PartNumber: HDR3X2_90_2.54A; Package: HDR3X2_90_2.54A
footprint HDR3X2_90_2.54 (Connector; Header; 2x2 Position)
part A pins: 1, 4
part B pins: 2, 5
part C pins: 3, 6

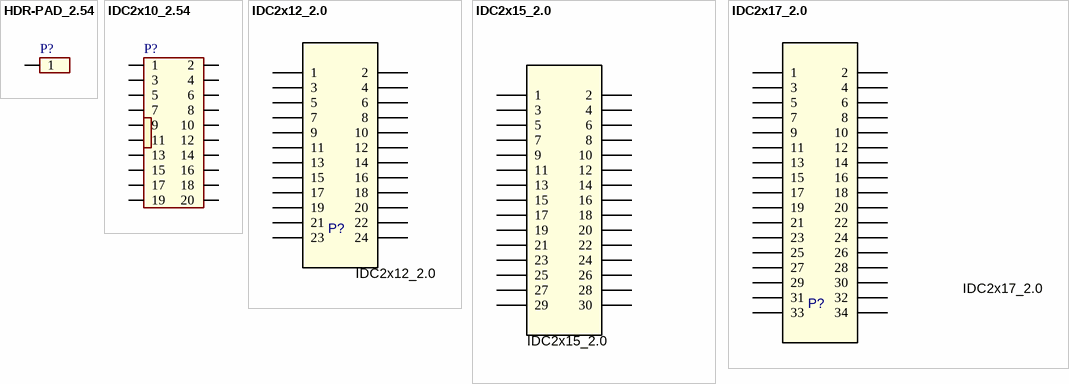
[diagram p2: symbols HDR-PAD_2.54 to IDC2x17_2.0]

## HDR-PAD_2.54
designator P?, comment HDR-PAD  (value not drawn)
Header; PartNumber: HDR-PAD_2.54; Package: HDR-PAD_2.54
footprint HDR-PAD_2.54
pins: 1

## IDC2x10_2.54
designator P?, comment IDC2x10  (value not drawn)
Header; PartNumber: IDC2x10_2.54; Package: IDC2x10_2.54
footprint IDC2X10_2.54_180F
pins: 1, 2, 3, 4, 5, 6, 7, 8, 9, 10, 11, 12, 13, 14, 15, 16, 17, 18, 19, 20

## IDC2x12_2.0
designator P?
Header; MFR: Mfr?; Package: IDC2x12_2.0; PartNumber: IDC2x12_2.0
footprint IDC2x12_2.0_R
footprint IDC2x12_2.0_R_EAR
footprint IDC2x12_2.0_S_EAR
pins: 1, 2, 3, 4, 5, 6, 7, 8, 9, 10, 11, 12, 13, 14, 15, 16, 17, 18, 19, 20, 21, 22, 23, 24

## IDC2x15_2.0
designator P?
Header; MFR: Mfr?; Package: IDC2x15_2.0; PartNumber: IDC2x15_2.0
footprint IDC2x15_2.0_R
footprint IDC2x15_2.0_R_EAR
footprint IDC2x15_2.0_S_EAR
pins: 1, 2, 3, 4, 5, 6, 7, 8, 9, 10, 11, 12, 13, 14, 15, 16, 17, 18, 19, 20, 21, 22, 23, 24, 25, 26, 27, 28, 29, 30

## IDC2x17_2.0
designator P?
Header; MFR: Mfr?; Package: IDC2x17_2.0; PartNumber: IDC2x17_2.0
footprint IDC2x17_2.0_R
pins: 1, 2, 3, 4, 5, 6, 7, 8, 9, 10, 11, 12, 13, 14, 15, 16, 17, 18, 19, 20, 21, 22, 23, 24, 25, 26, 27, 28, 29, 30, 31, 32, 33, 34